# Altium schematic symbol library 22_RES_THD_AX14_8mm.SchLib: 9 symbols
Pins are listed as number, name and electrical type; pins without a type are passive.

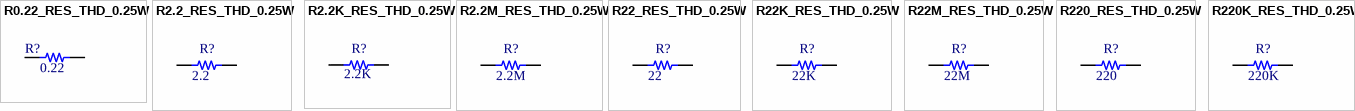
[diagram p0: symbols R0.22_RES_THD_0.25W to R220K_RES_THD_0.25W]

## R0.22_RES_THD_0.25W
designator R?, comment 0.22
RES_THD_0.25W-0.22; Rating: 0.25; Package: THT; Type: 5%; Value: 0.22
footprint RES_THD_AX14_0.25W-0.22 (RES_THD_AX14_ 0.25W -0.22 - 8 mm)
pins: 1, 2

## R2.2_RES_THD_0.25W
designator R?, comment 2.2
RES_THD_0.25W-2.2; Packge: THT; Rating: 0.25W; Type: 5%; Value: 2.2
footprint RES_THD_AX14_0.25W-2.2 (RES_THD_AX14_ 0.25W - 2.2 - 8 mm)
pins: 1, 2

## R2.2K_RES_THD_0.25W
designator R?, comment 2.2K
RES_THD_0.25W-2.2K; Rating: 0.25W; Package: THT; Type: 5%; Value: 2.2K
footprint RES_THD_AX14_0.25W-2.2K (RES_THD_AX14_ 0.25W - 2.2K - 8 mm)
pins: 1, 2

## R2.2M_RES_THD_0.25W
designator R?, comment 2.2M
RES_THD_0.25W-2.2M; Rating: 0.25W; Package: THT; Type: 5%; Value: 2.2M
footprint RES_THD_AX14_0.25W-2.2M (RES_THD_AX14_ 0.25W - 2.2M - 8 mm)
pins: 1, 2

## R22_RES_THD_0.25W
designator R?, comment 22
RES_THD_0.25W-22; Rating: 0.25W; Package: THT; Type: 5%; Value: 22
footprint RES_THD_AX14_0.25W-22 (RES_THD_AX14_ 0.25W - 22 - 8 mm)
pins: 1, 2

## R22K_RES_THD_0.25W
designator R?, comment 22K
RES_THD_0.25W-22K; Packge: THT; Rating: 0.25W; Type: 5%; Value: 22K
footprint RES_THD_AX14_0.25W-22K (RES_THD_AX14_ 0.25W - 22K - 8 mm)
pins: 1, 2

## R22M_RES_THD_0.25W
designator R?, comment 22M
RES_THD_0.25W-22M; Raing: 0.25; Package: THT; Type: 5%; Value: 22M
footprint RES_THD_AX14_0.25W-22M (RES_THD_AX14_ 0.25W - 22M - 8 mm)
pins: 1, 2

## R220_RES_THD_0.25W
designator R?, comment 220
RES_THD_0.25W-220; Rating: 0.25W; Package: THT; Type: 5%; Value: 220
footprint RES_THD_AX14_0.25W-220 (RES_THD_AX14_ 0.25W - 220 - 8 mm)
pins: 1, 2

## R220K_RES_THD_0.25W
designator R?, comment 220K
RES_THD_0.25W-220K; Rating: 0.25W; Package: THT; Type: 5%; Value: 220K
footprint RES_THD_AX14_0.25W-220K (RES_THD_AX14_ 0.25W - 220K - 8 mm)
pins: 1, 2